# Altium footprint library QFN_Sq_50P_Side_L.PcbLib: 118 footprints (part 7 of 8)
Each footprint in its own frame and in the unit in brackets; x right, y up, seen from the top. Pads: shape width x height; smd on the part's side, far side on the other; paste and mask are expansions set on the pad; w line width, h text height; cw(c..) or ccw(c..) is an arc to the next point about the centre after c.
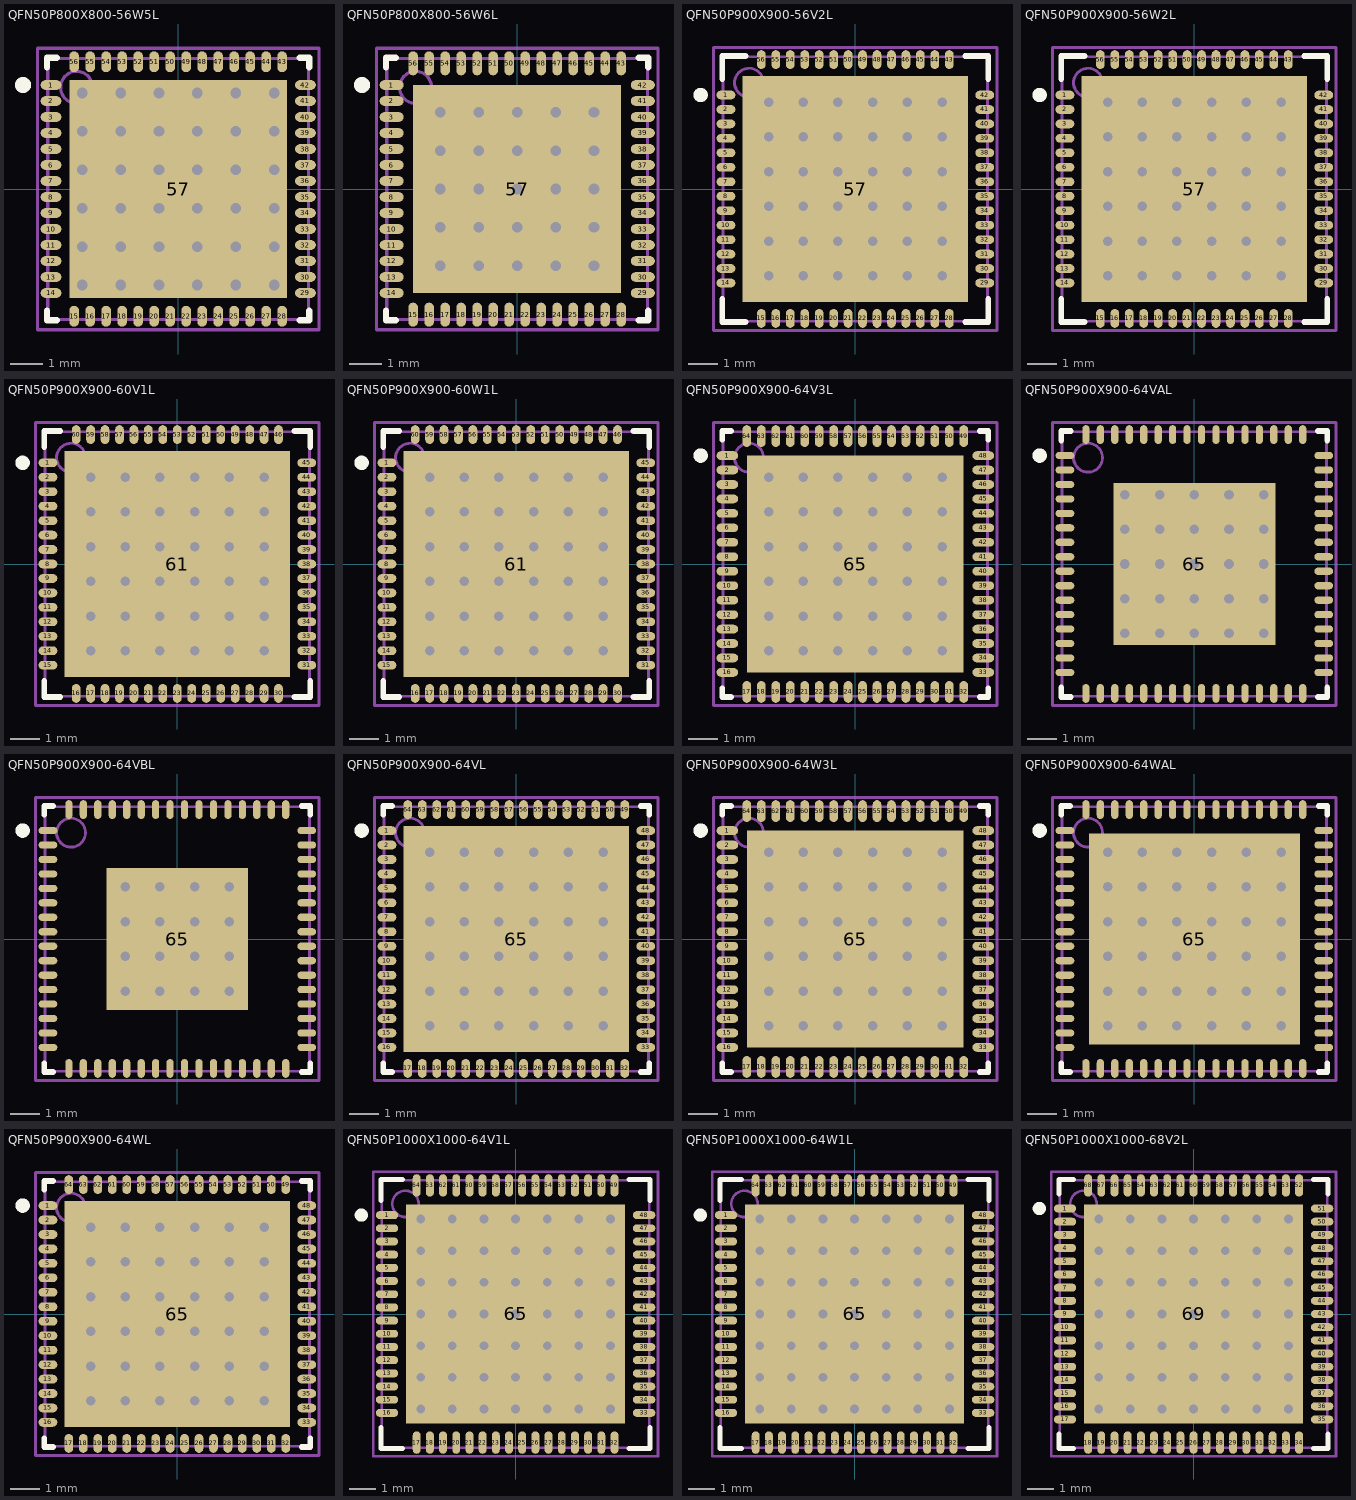
[diagram p6: the footprints below, top view; thin cyan lines are the x and y axes]

## QFN50P800X800-56W5L [mm] "QFN, 56-Leads, Body 8x8mm, Pitch 0.5mm, IPC High Density"
height 0.8
pads (57):
  oval 0.65x0.3 smd: 1(-3.975,3.25) 2(-3.975,2.75) 3(-3.975,2.25) 4(-3.975,1.75) 5(-3.975,1.25) 6(-3.975,0.75) 7(-3.975,0.25) 8(-3.975,-0.25) 9(-3.975,-0.75) 10(-3.975,-1.25) 11(-3.975,-1.75) 12(-3.975,-2.25) 13(-3.975,-2.75) 14(-3.975,-3.25) 29(3.975,-3.25) 30(3.975,-2.75) 31(3.975,-2.25) 32(3.975,-1.75) 33(3.975,-1.25) 34(3.975,-0.75) 35(3.975,-0.25) 36(3.975,0.25) 37(3.975,0.75) 38(3.975,1.25) 39(3.975,1.75) 40(3.975,2.25) 41(3.975,2.75) 42(3.975,3.25)
  oval 0.3x0.65 smd: 15(-3.25,-3.975) 16(-2.75,-3.975) 17(-2.25,-3.975) 18(-1.75,-3.975) 19(-1.25,-3.975) 20(-0.75,-3.975) 21(-0.25,-3.975) 22(0.25,-3.975) 23(0.75,-3.975) 24(1.25,-3.975) 25(1.75,-3.975) 26(2.25,-3.975) 27(2.75,-3.975) 28(3.25,-3.975) 43(3.25,3.975) 44(2.75,3.975) 45(2.25,3.975) 46(1.75,3.975) 47(1.25,3.975) 48(0.75,3.975) 49(0.25,3.975) 50(-0.25,3.975) 51(-0.75,3.975) 52(-1.25,3.975) 53(-1.75,3.975) 54(-2.25,3.975) 55(-2.75,3.975) 56(-3.25,3.975)
  rect 6.8x6.8 smd: 57(0,0)
via -3,3 diameter 0.66 hole 0.33
via -1.8,3 diameter 0.66 hole 0.33
via -0.6,3 diameter 0.66 hole 0.33
via 0.6,3 diameter 0.66 hole 0.33
via 1.8,3 diameter 0.66 hole 0.33
via 3,3 diameter 0.66 hole 0.33
via -3,1.8 diameter 0.66 hole 0.33
via -1.8,1.8 diameter 0.66 hole 0.33
via -0.6,1.8 diameter 0.66 hole 0.33
via 0.6,1.8 diameter 0.66 hole 0.33
via 1.8,1.8 diameter 0.66 hole 0.33
via 3,1.8 diameter 0.66 hole 0.33
via -3,0.6 diameter 0.66 hole 0.33
via -1.8,0.6 diameter 0.66 hole 0.33
via -0.6,0.6 diameter 0.66 hole 0.33
via 0.6,0.6 diameter 0.66 hole 0.33
via 1.8,0.6 diameter 0.66 hole 0.33
via 3,0.6 diameter 0.66 hole 0.33
via -3,-0.6 diameter 0.66 hole 0.33
via -1.8,-0.6 diameter 0.66 hole 0.33
via -0.6,-0.6 diameter 0.66 hole 0.33
via 0.6,-0.6 diameter 0.66 hole 0.33
via 1.8,-0.6 diameter 0.66 hole 0.33
via 3,-0.6 diameter 0.66 hole 0.33
via -3,-1.8 diameter 0.66 hole 0.33
via -1.8,-1.8 diameter 0.66 hole 0.33
via -0.6,-1.8 diameter 0.66 hole 0.33
via 0.6,-1.8 diameter 0.66 hole 0.33
via 1.8,-1.8 diameter 0.66 hole 0.33
via 3,-1.8 diameter 0.66 hole 0.33
via -3,-3 diameter 0.66 hole 0.33
via -1.8,-3 diameter 0.66 hole 0.33
via -0.6,-3 diameter 0.66 hole 0.33
via 0.6,-3 diameter 0.66 hole 0.33
via 1.8,-3 diameter 0.66 hole 0.33
via 3,-3 diameter 0.66 hole 0.33
Top Overlay:
  circle w0.25: c-4.85,3.25 r0.125
  lines w0.2: -4.1,-3.8 -4.1,-4.1 -3.8,-4.1 ; -4.1,3.8 -4.1,4.1 -3.8,4.1 ; 3.8,-4.1 4.1,-4.1 4.1,-3.8 ; 3.8,4.1 4.1,4.1 4.1,3.8
Mechanical 13:
  circle w0.1: c-3.175,3.175 r0.5
  lines w0.1: -4.075,-4.075 -4.075,4.075 4.075,4.075 4.075,-4.075 -4.075,-4.075
Mechanical 15:
  lines w0.1: -0.5,0 0.5,0 ; 0,-0.5 0,0.5 ; -4.4,-4.4 -4.4,4.4 4.4,4.4 4.4,-4.4 -4.4,-4.4
3D body: height 0.8, standoff 0, extent -4.075,-4.075 4.075,4.075

## QFN50P800X800-56W6L [mm] "QFN, 56-Leads, Body 8x8mm, Pitch 0.5mm, IPC High Density"
height 0.8
pads (57):
  oval 0.75x0.3 smd: 1(-3.925,3.25) 2(-3.925,2.75) 3(-3.925,2.25) 4(-3.925,1.75) 5(-3.925,1.25) 6(-3.925,0.75) 7(-3.925,0.25) 8(-3.925,-0.25) 9(-3.925,-0.75) 10(-3.925,-1.25) 11(-3.925,-1.75) 12(-3.925,-2.25) 13(-3.925,-2.75) 14(-3.925,-3.25) 29(3.925,-3.25) 30(3.925,-2.75) 31(3.925,-2.25) 32(3.925,-1.75) 33(3.925,-1.25) 34(3.925,-0.75) 35(3.925,-0.25) 36(3.925,0.25) 37(3.925,0.75) 38(3.925,1.25) 39(3.925,1.75) 40(3.925,2.25) 41(3.925,2.75) 42(3.925,3.25)
  oval 0.3x0.75 smd: 15(-3.25,-3.925) 16(-2.75,-3.925) 17(-2.25,-3.925) 18(-1.75,-3.925) 19(-1.25,-3.925) 20(-0.75,-3.925) 21(-0.25,-3.925) 22(0.25,-3.925) 23(0.75,-3.925) 24(1.25,-3.925) 25(1.75,-3.925) 26(2.25,-3.925) 27(2.75,-3.925) 28(3.25,-3.925) 43(3.25,3.925) 44(2.75,3.925) 45(2.25,3.925) 46(1.75,3.925) 47(1.25,3.925) 48(0.75,3.925) 49(0.25,3.925) 50(-0.25,3.925) 51(-0.75,3.925) 52(-1.25,3.925) 53(-1.75,3.925) 54(-2.25,3.925) 55(-2.75,3.925) 56(-3.25,3.925)
  rect 6.5x6.5 smd: 57(0,0)
via -2.4,2.4 diameter 0.66 hole 0.33
via -1.2,2.4 diameter 0.66 hole 0.33
via 0,2.4 diameter 0.66 hole 0.33
via 1.2,2.4 diameter 0.66 hole 0.33
via 2.4,2.4 diameter 0.66 hole 0.33
via -2.4,1.2 diameter 0.66 hole 0.33
via -1.2,1.2 diameter 0.66 hole 0.33
via 0,1.2 diameter 0.66 hole 0.33
via 1.2,1.2 diameter 0.66 hole 0.33
via 2.4,1.2 diameter 0.66 hole 0.33
via -2.4,0 diameter 0.66 hole 0.33
via -1.2,0 diameter 0.66 hole 0.33
via 0,0 diameter 0.66 hole 0.33
via 1.2,0 diameter 0.66 hole 0.33
via 2.4,0 diameter 0.66 hole 0.33
via -2.4,-1.2 diameter 0.66 hole 0.33
via -1.2,-1.2 diameter 0.66 hole 0.33
via 0,-1.2 diameter 0.66 hole 0.33
via 1.2,-1.2 diameter 0.66 hole 0.33
via 2.4,-1.2 diameter 0.66 hole 0.33
via -2.4,-2.4 diameter 0.66 hole 0.33
via -1.2,-2.4 diameter 0.66 hole 0.33
via 0,-2.4 diameter 0.66 hole 0.33
via 1.2,-2.4 diameter 0.66 hole 0.33
via 2.4,-2.4 diameter 0.66 hole 0.33
Top Overlay:
  circle w0.25: c-4.85,3.25 r0.125
  lines w0.2: -4.1,-3.8 -4.1,-4.1 -3.8,-4.1 ; -4.1,3.8 -4.1,4.1 -3.8,4.1 ; 3.8,-4.1 4.1,-4.1 4.1,-3.8 ; 3.8,4.1 4.1,4.1 4.1,3.8
Mechanical 13:
  circle w0.1: c-3.175,3.175 r0.5
  lines w0.1: -4.075,-4.075 -4.075,4.075 4.075,4.075 4.075,-4.075 -4.075,-4.075
Mechanical 15:
  lines w0.1: -0.5,0 0.5,0 ; 0,-0.5 0,0.5 ; -4.4,-4.4 -4.4,4.4 4.4,4.4 4.4,-4.4 -4.4,-4.4
3D body: height 0.8, standoff 0, extent -4.075,-4.075 4.075,4.075

## QFN50P900X900-56V2L [mm] "QFN, 56-Leads, Body 9x9mm, Pitch 0.5mm, IPC High Density"
height 1
pads (57):
  oval 0.65x0.3 smd: 1(-4.475,3.25) 2(-4.475,2.75) 3(-4.475,2.25) 4(-4.475,1.75) 5(-4.475,1.25) 6(-4.475,0.75) 7(-4.475,0.25) 8(-4.475,-0.25) 9(-4.475,-0.75) 10(-4.475,-1.25) 11(-4.475,-1.75) 12(-4.475,-2.25) 13(-4.475,-2.75) 14(-4.475,-3.25) 29(4.475,-3.25) 30(4.475,-2.75) 31(4.475,-2.25) 32(4.475,-1.75) 33(4.475,-1.25) 34(4.475,-0.75) 35(4.475,-0.25) 36(4.475,0.25) 37(4.475,0.75) 38(4.475,1.25) 39(4.475,1.75) 40(4.475,2.25) 41(4.475,2.75) 42(4.475,3.25)
  oval 0.3x0.65 smd: 15(-3.25,-4.475) 16(-2.75,-4.475) 17(-2.25,-4.475) 18(-1.75,-4.475) 19(-1.25,-4.475) 20(-0.75,-4.475) 21(-0.25,-4.475) 22(0.25,-4.475) 23(0.75,-4.475) 24(1.25,-4.475) 25(1.75,-4.475) 26(2.25,-4.475) 27(2.75,-4.475) 28(3.25,-4.475) 43(3.25,4.475) 44(2.75,4.475) 45(2.25,4.475) 46(1.75,4.475) 47(1.25,4.475) 48(0.75,4.475) 49(0.25,4.475) 50(-0.25,4.475) 51(-0.75,4.475) 52(-1.25,4.475) 53(-1.75,4.475) 54(-2.25,4.475) 55(-2.75,4.475) 56(-3.25,4.475)
  rect 7.8x7.8 smd: 57(0,0)
via -3,3 diameter 0.66 hole 0.33
via -1.8,3 diameter 0.66 hole 0.33
via -0.6,3 diameter 0.66 hole 0.33
via 0.6,3 diameter 0.66 hole 0.33
via 1.8,3 diameter 0.66 hole 0.33
via 3,3 diameter 0.66 hole 0.33
via -3,1.8 diameter 0.66 hole 0.33
via -1.8,1.8 diameter 0.66 hole 0.33
via -0.6,1.8 diameter 0.66 hole 0.33
via 0.6,1.8 diameter 0.66 hole 0.33
via 1.8,1.8 diameter 0.66 hole 0.33
via 3,1.8 diameter 0.66 hole 0.33
via -3,0.6 diameter 0.66 hole 0.33
via -1.8,0.6 diameter 0.66 hole 0.33
via -0.6,0.6 diameter 0.66 hole 0.33
via 0.6,0.6 diameter 0.66 hole 0.33
via 1.8,0.6 diameter 0.66 hole 0.33
via 3,0.6 diameter 0.66 hole 0.33
via -3,-0.6 diameter 0.66 hole 0.33
via -1.8,-0.6 diameter 0.66 hole 0.33
via -0.6,-0.6 diameter 0.66 hole 0.33
via 0.6,-0.6 diameter 0.66 hole 0.33
via 1.8,-0.6 diameter 0.66 hole 0.33
via 3,-0.6 diameter 0.66 hole 0.33
via -3,-1.8 diameter 0.66 hole 0.33
via -1.8,-1.8 diameter 0.66 hole 0.33
via -0.6,-1.8 diameter 0.66 hole 0.33
via 0.6,-1.8 diameter 0.66 hole 0.33
via 1.8,-1.8 diameter 0.66 hole 0.33
via 3,-1.8 diameter 0.66 hole 0.33
via -3,-3 diameter 0.66 hole 0.33
via -1.8,-3 diameter 0.66 hole 0.33
via -0.6,-3 diameter 0.66 hole 0.33
via 0.6,-3 diameter 0.66 hole 0.33
via 1.8,-3 diameter 0.66 hole 0.33
via 3,-3 diameter 0.66 hole 0.33
Top Overlay:
  circle w0.25: c-5.35,3.25 r0.125
  lines w0.2: -4.6,-3.8 -4.6,-4.6 -3.8,-4.6 ; -4.6,3.8 -4.6,4.6 -3.8,4.6 ; 3.8,-4.6 4.6,-4.6 4.6,-3.8 ; 3.8,4.6 4.6,4.6 4.6,3.8
Mechanical 13:
  circle w0.1: c-3.675,3.675 r0.5
  lines w0.1: -4.575,-4.575 -4.575,4.575 4.575,4.575 4.575,-4.575 -4.575,-4.575
Mechanical 15:
  lines w0.1: -0.5,0 0.5,0 ; 0,-0.5 0,0.5 ; -4.9,-4.9 -4.9,4.9 4.9,4.9 4.9,-4.9 -4.9,-4.9
3D body: height 1, standoff 0, extent -4.575,-4.575 4.575,4.575

## QFN50P900X900-56W2L [mm] "QFN, 56-Leads, Body 9x9mm, Pitch 0.5mm, IPC High Density"
height 0.8
pads (57):
  oval 0.65x0.3 smd: 1(-4.475,3.25) 2(-4.475,2.75) 3(-4.475,2.25) 4(-4.475,1.75) 5(-4.475,1.25) 6(-4.475,0.75) 7(-4.475,0.25) 8(-4.475,-0.25) 9(-4.475,-0.75) 10(-4.475,-1.25) 11(-4.475,-1.75) 12(-4.475,-2.25) 13(-4.475,-2.75) 14(-4.475,-3.25) 29(4.475,-3.25) 30(4.475,-2.75) 31(4.475,-2.25) 32(4.475,-1.75) 33(4.475,-1.25) 34(4.475,-0.75) 35(4.475,-0.25) 36(4.475,0.25) 37(4.475,0.75) 38(4.475,1.25) 39(4.475,1.75) 40(4.475,2.25) 41(4.475,2.75) 42(4.475,3.25)
  oval 0.3x0.65 smd: 15(-3.25,-4.475) 16(-2.75,-4.475) 17(-2.25,-4.475) 18(-1.75,-4.475) 19(-1.25,-4.475) 20(-0.75,-4.475) 21(-0.25,-4.475) 22(0.25,-4.475) 23(0.75,-4.475) 24(1.25,-4.475) 25(1.75,-4.475) 26(2.25,-4.475) 27(2.75,-4.475) 28(3.25,-4.475) 43(3.25,4.475) 44(2.75,4.475) 45(2.25,4.475) 46(1.75,4.475) 47(1.25,4.475) 48(0.75,4.475) 49(0.25,4.475) 50(-0.25,4.475) 51(-0.75,4.475) 52(-1.25,4.475) 53(-1.75,4.475) 54(-2.25,4.475) 55(-2.75,4.475) 56(-3.25,4.475)
  rect 7.8x7.8 smd: 57(0,0)
via -3,3 diameter 0.66 hole 0.33
via -1.8,3 diameter 0.66 hole 0.33
via -0.6,3 diameter 0.66 hole 0.33
via 0.6,3 diameter 0.66 hole 0.33
via 1.8,3 diameter 0.66 hole 0.33
via 3,3 diameter 0.66 hole 0.33
via -3,1.8 diameter 0.66 hole 0.33
via -1.8,1.8 diameter 0.66 hole 0.33
via -0.6,1.8 diameter 0.66 hole 0.33
via 0.6,1.8 diameter 0.66 hole 0.33
via 1.8,1.8 diameter 0.66 hole 0.33
via 3,1.8 diameter 0.66 hole 0.33
via -3,0.6 diameter 0.66 hole 0.33
via -1.8,0.6 diameter 0.66 hole 0.33
via -0.6,0.6 diameter 0.66 hole 0.33
via 0.6,0.6 diameter 0.66 hole 0.33
via 1.8,0.6 diameter 0.66 hole 0.33
via 3,0.6 diameter 0.66 hole 0.33
via -3,-0.6 diameter 0.66 hole 0.33
via -1.8,-0.6 diameter 0.66 hole 0.33
via -0.6,-0.6 diameter 0.66 hole 0.33
via 0.6,-0.6 diameter 0.66 hole 0.33
via 1.8,-0.6 diameter 0.66 hole 0.33
via 3,-0.6 diameter 0.66 hole 0.33
via -3,-1.8 diameter 0.66 hole 0.33
via -1.8,-1.8 diameter 0.66 hole 0.33
via -0.6,-1.8 diameter 0.66 hole 0.33
via 0.6,-1.8 diameter 0.66 hole 0.33
via 1.8,-1.8 diameter 0.66 hole 0.33
via 3,-1.8 diameter 0.66 hole 0.33
via -3,-3 diameter 0.66 hole 0.33
via -1.8,-3 diameter 0.66 hole 0.33
via -0.6,-3 diameter 0.66 hole 0.33
via 0.6,-3 diameter 0.66 hole 0.33
via 1.8,-3 diameter 0.66 hole 0.33
via 3,-3 diameter 0.66 hole 0.33
Top Overlay:
  circle w0.25: c-5.35,3.25 r0.125
  lines w0.2: -4.6,-3.8 -4.6,-4.6 -3.8,-4.6 ; -4.6,3.8 -4.6,4.6 -3.8,4.6 ; 3.8,-4.6 4.6,-4.6 4.6,-3.8 ; 3.8,4.6 4.6,4.6 4.6,3.8
Mechanical 13:
  circle w0.1: c-3.675,3.675 r0.5
  lines w0.1: -4.575,-4.575 -4.575,4.575 4.575,4.575 4.575,-4.575 -4.575,-4.575
Mechanical 15:
  lines w0.1: -0.5,0 0.5,0 ; 0,-0.5 0,0.5 ; -4.9,-4.9 -4.9,4.9 4.9,4.9 4.9,-4.9 -4.9,-4.9
3D body: height 0.8, standoff 0, extent -4.575,-4.575 4.575,4.575

## QFN50P900X900-60V1L [mm] "QFN, 60-Leads, Body 9x9mm, Pitch 0.5mm, IPC High Density"
height 1
pads (61):
  oval 0.65x0.3 smd: 1(-4.475,3.5) 2(-4.475,3) 3(-4.475,2.5) 4(-4.475,2) 5(-4.475,1.5) 6(-4.475,1) 7(-4.475,0.5) 8(-4.475,0) 9(-4.475,-0.5) 10(-4.475,-1) 11(-4.475,-1.5) 12(-4.475,-2) 13(-4.475,-2.5) 14(-4.475,-3) 15(-4.475,-3.5) 31(4.475,-3.5) 32(4.475,-3) 33(4.475,-2.5) 34(4.475,-2) 35(4.475,-1.5) 36(4.475,-1) 37(4.475,-0.5) 38(4.475,0) 39(4.475,0.5) 40(4.475,1) 41(4.475,1.5) 42(4.475,2) 43(4.475,2.5) 44(4.475,3) 45(4.475,3.5)
  oval 0.3x0.65 smd: 16(-3.5,-4.475) 17(-3,-4.475) 18(-2.5,-4.475) 19(-2,-4.475) 20(-1.5,-4.475) 21(-1,-4.475) 22(-0.5,-4.475) 23(0,-4.475) 24(0.5,-4.475) 25(1,-4.475) 26(1.5,-4.475) 27(2,-4.475) 28(2.5,-4.475) 29(3,-4.475) 30(3.5,-4.475) 46(3.5,4.475) 47(3,4.475) 48(2.5,4.475) 49(2,4.475) 50(1.5,4.475) 51(1,4.475) 52(0.5,4.475) 53(0,4.475) 54(-0.5,4.475) 55(-1,4.475) 56(-1.5,4.475) 57(-2,4.475) 58(-2.5,4.475) 59(-3,4.475) 60(-3.5,4.475)
  rect 7.8x7.8 smd: 61(0,0)
via -3,3 diameter 0.66 hole 0.33
via -1.8,3 diameter 0.66 hole 0.33
via -0.6,3 diameter 0.66 hole 0.33
via 0.6,3 diameter 0.66 hole 0.33
via 1.8,3 diameter 0.66 hole 0.33
via 3,3 diameter 0.66 hole 0.33
via -3,1.8 diameter 0.66 hole 0.33
via -1.8,1.8 diameter 0.66 hole 0.33
via -0.6,1.8 diameter 0.66 hole 0.33
via 0.6,1.8 diameter 0.66 hole 0.33
via 1.8,1.8 diameter 0.66 hole 0.33
via 3,1.8 diameter 0.66 hole 0.33
via -3,0.6 diameter 0.66 hole 0.33
via -1.8,0.6 diameter 0.66 hole 0.33
via -0.6,0.6 diameter 0.66 hole 0.33
via 0.6,0.6 diameter 0.66 hole 0.33
via 1.8,0.6 diameter 0.66 hole 0.33
via 3,0.6 diameter 0.66 hole 0.33
via -3,-0.6 diameter 0.66 hole 0.33
via -1.8,-0.6 diameter 0.66 hole 0.33
via -0.6,-0.6 diameter 0.66 hole 0.33
via 0.6,-0.6 diameter 0.66 hole 0.33
via 1.8,-0.6 diameter 0.66 hole 0.33
via 3,-0.6 diameter 0.66 hole 0.33
via -3,-1.8 diameter 0.66 hole 0.33
via -1.8,-1.8 diameter 0.66 hole 0.33
via -0.6,-1.8 diameter 0.66 hole 0.33
via 0.6,-1.8 diameter 0.66 hole 0.33
via 1.8,-1.8 diameter 0.66 hole 0.33
via 3,-1.8 diameter 0.66 hole 0.33
via -3,-3 diameter 0.66 hole 0.33
via -1.8,-3 diameter 0.66 hole 0.33
via -0.6,-3 diameter 0.66 hole 0.33
via 0.6,-3 diameter 0.66 hole 0.33
via 1.8,-3 diameter 0.66 hole 0.33
via 3,-3 diameter 0.66 hole 0.33
Top Overlay:
  circle w0.25: c-5.35,3.5 r0.125
  lines w0.2: -4.6,-4.05 -4.6,-4.6 -4.05,-4.6 ; -4.6,4.05 -4.6,4.6 -4.05,4.6 ; 4.05,-4.6 4.6,-4.6 4.6,-4.05 ; 4.05,4.6 4.6,4.6 4.6,4.05
Mechanical 13:
  circle w0.1: c-3.675,3.675 r0.5
  lines w0.1: -4.575,-4.575 -4.575,4.575 4.575,4.575 4.575,-4.575 -4.575,-4.575
Mechanical 15:
  lines w0.1: -0.5,0 0.5,0 ; 0,-0.5 0,0.5 ; -4.9,-4.9 -4.9,4.9 4.9,4.9 4.9,-4.9 -4.9,-4.9
3D body: height 1, standoff 0, extent -4.575,-4.575 4.575,4.575

## QFN50P900X900-60W1L [mm] "QFN, 60-Leads, Body 9x9mm, Pitch 0.5mm, IPC High Density"
height 0.8
pads (61):
  oval 0.65x0.3 smd: 1(-4.475,3.5) 2(-4.475,3) 3(-4.475,2.5) 4(-4.475,2) 5(-4.475,1.5) 6(-4.475,1) 7(-4.475,0.5) 8(-4.475,0) 9(-4.475,-0.5) 10(-4.475,-1) 11(-4.475,-1.5) 12(-4.475,-2) 13(-4.475,-2.5) 14(-4.475,-3) 15(-4.475,-3.5) 31(4.475,-3.5) 32(4.475,-3) 33(4.475,-2.5) 34(4.475,-2) 35(4.475,-1.5) 36(4.475,-1) 37(4.475,-0.5) 38(4.475,0) 39(4.475,0.5) 40(4.475,1) 41(4.475,1.5) 42(4.475,2) 43(4.475,2.5) 44(4.475,3) 45(4.475,3.5)
  oval 0.3x0.65 smd: 16(-3.5,-4.475) 17(-3,-4.475) 18(-2.5,-4.475) 19(-2,-4.475) 20(-1.5,-4.475) 21(-1,-4.475) 22(-0.5,-4.475) 23(0,-4.475) 24(0.5,-4.475) 25(1,-4.475) 26(1.5,-4.475) 27(2,-4.475) 28(2.5,-4.475) 29(3,-4.475) 30(3.5,-4.475) 46(3.5,4.475) 47(3,4.475) 48(2.5,4.475) 49(2,4.475) 50(1.5,4.475) 51(1,4.475) 52(0.5,4.475) 53(0,4.475) 54(-0.5,4.475) 55(-1,4.475) 56(-1.5,4.475) 57(-2,4.475) 58(-2.5,4.475) 59(-3,4.475) 60(-3.5,4.475)
  rect 7.8x7.8 smd: 61(0,0)
via -3,3 diameter 0.66 hole 0.33
via -1.8,3 diameter 0.66 hole 0.33
via -0.6,3 diameter 0.66 hole 0.33
via 0.6,3 diameter 0.66 hole 0.33
via 1.8,3 diameter 0.66 hole 0.33
via 3,3 diameter 0.66 hole 0.33
via -3,1.8 diameter 0.66 hole 0.33
via -1.8,1.8 diameter 0.66 hole 0.33
via -0.6,1.8 diameter 0.66 hole 0.33
via 0.6,1.8 diameter 0.66 hole 0.33
via 1.8,1.8 diameter 0.66 hole 0.33
via 3,1.8 diameter 0.66 hole 0.33
via -3,0.6 diameter 0.66 hole 0.33
via -1.8,0.6 diameter 0.66 hole 0.33
via -0.6,0.6 diameter 0.66 hole 0.33
via 0.6,0.6 diameter 0.66 hole 0.33
via 1.8,0.6 diameter 0.66 hole 0.33
via 3,0.6 diameter 0.66 hole 0.33
via -3,-0.6 diameter 0.66 hole 0.33
via -1.8,-0.6 diameter 0.66 hole 0.33
via -0.6,-0.6 diameter 0.66 hole 0.33
via 0.6,-0.6 diameter 0.66 hole 0.33
via 1.8,-0.6 diameter 0.66 hole 0.33
via 3,-0.6 diameter 0.66 hole 0.33
via -3,-1.8 diameter 0.66 hole 0.33
via -1.8,-1.8 diameter 0.66 hole 0.33
via -0.6,-1.8 diameter 0.66 hole 0.33
via 0.6,-1.8 diameter 0.66 hole 0.33
via 1.8,-1.8 diameter 0.66 hole 0.33
via 3,-1.8 diameter 0.66 hole 0.33
via -3,-3 diameter 0.66 hole 0.33
via -1.8,-3 diameter 0.66 hole 0.33
via -0.6,-3 diameter 0.66 hole 0.33
via 0.6,-3 diameter 0.66 hole 0.33
via 1.8,-3 diameter 0.66 hole 0.33
via 3,-3 diameter 0.66 hole 0.33
Top Overlay:
  circle w0.25: c-5.35,3.5 r0.125
  lines w0.2: -4.6,-4.05 -4.6,-4.6 -4.05,-4.6 ; -4.6,4.05 -4.6,4.6 -4.05,4.6 ; 4.05,-4.6 4.6,-4.6 4.6,-4.05 ; 4.05,4.6 4.6,4.6 4.6,4.05
Mechanical 13:
  circle w0.1: c-3.675,3.675 r0.5
  lines w0.1: -4.575,-4.575 -4.575,4.575 4.575,4.575 4.575,-4.575 -4.575,-4.575
Mechanical 15:
  lines w0.1: -0.5,0 0.5,0 ; 0,-0.5 0,0.5 ; -4.9,-4.9 -4.9,4.9 4.9,4.9 4.9,-4.9 -4.9,-4.9
3D body: height 0.8, standoff 0, extent -4.575,-4.575 4.575,4.575

## QFN50P900X900-64V3L [mm] "QFN, 64-Leads, Body 9x9mm, Pitch 0.5mm, IPC High Density"
height 1
pads (65):
  oval 0.75x0.3 smd: 1(-4.425,3.75) 2(-4.425,3.25) 3(-4.425,2.75) 4(-4.425,2.25) 5(-4.425,1.75) 6(-4.425,1.25) 7(-4.425,0.75) 8(-4.425,0.25) 9(-4.425,-0.25) 10(-4.425,-0.75) 11(-4.425,-1.25) 12(-4.425,-1.75) 13(-4.425,-2.25) 14(-4.425,-2.75) 15(-4.425,-3.25) 16(-4.425,-3.75) 33(4.425,-3.75) 34(4.425,-3.25) 35(4.425,-2.75) 36(4.425,-2.25) 37(4.425,-1.75) 38(4.425,-1.25) 39(4.425,-0.75) 40(4.425,-0.25) 41(4.425,0.25) 42(4.425,0.75) 43(4.425,1.25) 44(4.425,1.75) 45(4.425,2.25) 46(4.425,2.75) 47(4.425,3.25) 48(4.425,3.75)
  oval 0.3x0.75 smd: 17(-3.75,-4.425) 18(-3.25,-4.425) 19(-2.75,-4.425) 20(-2.25,-4.425) 21(-1.75,-4.425) 22(-1.25,-4.425) 23(-0.75,-4.425) 24(-0.25,-4.425) 25(0.25,-4.425) 26(0.75,-4.425) 27(1.25,-4.425) 28(1.75,-4.425) 29(2.25,-4.425) 30(2.75,-4.425) 31(3.25,-4.425) 32(3.75,-4.425) 49(3.75,4.425) 50(3.25,4.425) 51(2.75,4.425) 52(2.25,4.425) 53(1.75,4.425) 54(1.25,4.425) 55(0.75,4.425) 56(0.25,4.425) 57(-0.25,4.425) 58(-0.75,4.425) 59(-1.25,4.425) 60(-1.75,4.425) 61(-2.25,4.425) 62(-2.75,4.425) 63(-3.25,4.425) 64(-3.75,4.425)
  rect 7.5x7.5 smd: 65(0,0)
via -3,3 diameter 0.66 hole 0.33
via -1.8,3 diameter 0.66 hole 0.33
via -0.6,3 diameter 0.66 hole 0.33
via 0.6,3 diameter 0.66 hole 0.33
via 1.8,3 diameter 0.66 hole 0.33
via 3,3 diameter 0.66 hole 0.33
via -3,1.8 diameter 0.66 hole 0.33
via -1.8,1.8 diameter 0.66 hole 0.33
via -0.6,1.8 diameter 0.66 hole 0.33
via 0.6,1.8 diameter 0.66 hole 0.33
via 1.8,1.8 diameter 0.66 hole 0.33
via 3,1.8 diameter 0.66 hole 0.33
via -3,0.6 diameter 0.66 hole 0.33
via -1.8,0.6 diameter 0.66 hole 0.33
via -0.6,0.6 diameter 0.66 hole 0.33
via 0.6,0.6 diameter 0.66 hole 0.33
via 1.8,0.6 diameter 0.66 hole 0.33
via 3,0.6 diameter 0.66 hole 0.33
via -3,-0.6 diameter 0.66 hole 0.33
via -1.8,-0.6 diameter 0.66 hole 0.33
via -0.6,-0.6 diameter 0.66 hole 0.33
via 0.6,-0.6 diameter 0.66 hole 0.33
via 1.8,-0.6 diameter 0.66 hole 0.33
via 3,-0.6 diameter 0.66 hole 0.33
via -3,-1.8 diameter 0.66 hole 0.33
via -1.8,-1.8 diameter 0.66 hole 0.33
via -0.6,-1.8 diameter 0.66 hole 0.33
via 0.6,-1.8 diameter 0.66 hole 0.33
via 1.8,-1.8 diameter 0.66 hole 0.33
via 3,-1.8 diameter 0.66 hole 0.33
via -3,-3 diameter 0.66 hole 0.33
via -1.8,-3 diameter 0.66 hole 0.33
via -0.6,-3 diameter 0.66 hole 0.33
via 0.6,-3 diameter 0.66 hole 0.33
via 1.8,-3 diameter 0.66 hole 0.33
via 3,-3 diameter 0.66 hole 0.33
Top Overlay:
  circle w0.25: c-5.35,3.75 r0.125
  lines w0.2: -4.6,-4.3 -4.6,-4.6 -4.3,-4.6 ; -4.6,4.3 -4.6,4.6 -4.3,4.6 ; 4.3,-4.6 4.6,-4.6 4.6,-4.3 ; 4.3,4.6 4.6,4.6 4.6,4.3
Mechanical 13:
  circle w0.1: c-3.675,3.675 r0.5
  lines w0.1: -4.575,-4.575 -4.575,4.575 4.575,4.575 4.575,-4.575 -4.575,-4.575
Mechanical 15:
  lines w0.1: -0.5,0 0.5,0 ; 0,-0.5 0,0.5 ; -4.9,-4.9 -4.9,4.9 4.9,4.9 4.9,-4.9 -4.9,-4.9
3D body: height 1, standoff 0, extent -4.575,-4.575 4.575,4.575

## QFN50P900X900-64VAL [mm] "QFN, 64-Leads, Body 9x9mm, Pitch 0.5mm, IPC High Density"
height 1
pads (65):
  oval 0.65x0.25 smd: 1(-4.475,3.75) 2(-4.475,3.25) 3(-4.475,2.75) 4(-4.475,2.25) 5(-4.475,1.75) 6(-4.475,1.25) 7(-4.475,0.75) 8(-4.475,0.25) 9(-4.475,-0.25) 10(-4.475,-0.75) 11(-4.475,-1.25) 12(-4.475,-1.75) 13(-4.475,-2.25) 14(-4.475,-2.75) 15(-4.475,-3.25) 16(-4.475,-3.75) 33(4.475,-3.75) 34(4.475,-3.25) 35(4.475,-2.75) 36(4.475,-2.25) 37(4.475,-1.75) 38(4.475,-1.25) 39(4.475,-0.75) 40(4.475,-0.25) 41(4.475,0.25) 42(4.475,0.75) 43(4.475,1.25) 44(4.475,1.75) 45(4.475,2.25) 46(4.475,2.75) 47(4.475,3.25) 48(4.475,3.75)
  oval 0.25x0.65 smd: 17(-3.75,-4.475) 18(-3.25,-4.475) 19(-2.75,-4.475) 20(-2.25,-4.475) 21(-1.75,-4.475) 22(-1.25,-4.475) 23(-0.75,-4.475) 24(-0.25,-4.475) 25(0.25,-4.475) 26(0.75,-4.475) 27(1.25,-4.475) 28(1.75,-4.475) 29(2.25,-4.475) 30(2.75,-4.475) 31(3.25,-4.475) 32(3.75,-4.475) 49(3.75,4.475) 50(3.25,4.475) 51(2.75,4.475) 52(2.25,4.475) 53(1.75,4.475) 54(1.25,4.475) 55(0.75,4.475) 56(0.25,4.475) 57(-0.25,4.475) 58(-0.75,4.475) 59(-1.25,4.475) 60(-1.75,4.475) 61(-2.25,4.475) 62(-2.75,4.475) 63(-3.25,4.475) 64(-3.75,4.475)
  rect 5.6x5.6 smd: 65(0,0)
via -2.4,2.4 diameter 0.66 hole 0.33
via -1.2,2.4 diameter 0.66 hole 0.33
via 0,2.4 diameter 0.66 hole 0.33
via 1.2,2.4 diameter 0.66 hole 0.33
via 2.4,2.4 diameter 0.66 hole 0.33
via -2.4,1.2 diameter 0.66 hole 0.33
via -1.2,1.2 diameter 0.66 hole 0.33
via 0,1.2 diameter 0.66 hole 0.33
via 1.2,1.2 diameter 0.66 hole 0.33
via 2.4,1.2 diameter 0.66 hole 0.33
via -2.4,0 diameter 0.66 hole 0.33
via -1.2,0 diameter 0.66 hole 0.33
via 0,0 diameter 0.66 hole 0.33
via 1.2,0 diameter 0.66 hole 0.33
via 2.4,0 diameter 0.66 hole 0.33
via -2.4,-1.2 diameter 0.66 hole 0.33
via -1.2,-1.2 diameter 0.66 hole 0.33
via 0,-1.2 diameter 0.66 hole 0.33
via 1.2,-1.2 diameter 0.66 hole 0.33
via 2.4,-1.2 diameter 0.66 hole 0.33
via -2.4,-2.4 diameter 0.66 hole 0.33
via -1.2,-2.4 diameter 0.66 hole 0.33
via 0,-2.4 diameter 0.66 hole 0.33
via 1.2,-2.4 diameter 0.66 hole 0.33
via 2.4,-2.4 diameter 0.66 hole 0.33
Top Overlay:
  circle w0.25: c-5.35,3.75 r0.125
  lines w0.2: -4.6,-4.275 -4.6,-4.6 -4.275,-4.6 ; -4.6,4.275 -4.6,4.6 -4.275,4.6 ; 4.275,-4.6 4.6,-4.6 4.6,-4.275 ; 4.275,4.6 4.6,4.6 4.6,4.275
Mechanical 13:
  circle w0.1: c-3.675,3.675 r0.5
  lines w0.1: -4.575,-4.575 -4.575,4.575 4.575,4.575 4.575,-4.575 -4.575,-4.575
Mechanical 15:
  lines w0.1: -0.5,0 0.5,0 ; 0,-0.5 0,0.5 ; -4.9,-4.9 -4.9,4.9 4.9,4.9 4.9,-4.9 -4.9,-4.9
3D body: height 1, standoff 0, extent -4.575,-4.575 4.575,4.575

## QFN50P900X900-64VBL [mm] "QFN, 64-Leads, Body 9x9mm, Pitch 0.5mm, IPC High Density"
height 1
pads (65):
  oval 0.65x0.25 smd: 1(-4.475,3.75) 2(-4.475,3.25) 3(-4.475,2.75) 4(-4.475,2.25) 5(-4.475,1.75) 6(-4.475,1.25) 7(-4.475,0.75) 8(-4.475,0.25) 9(-4.475,-0.25) 10(-4.475,-0.75) 11(-4.475,-1.25) 12(-4.475,-1.75) 13(-4.475,-2.25) 14(-4.475,-2.75) 15(-4.475,-3.25) 16(-4.475,-3.75) 33(4.475,-3.75) 34(4.475,-3.25) 35(4.475,-2.75) 36(4.475,-2.25) 37(4.475,-1.75) 38(4.475,-1.25) 39(4.475,-0.75) 40(4.475,-0.25) 41(4.475,0.25) 42(4.475,0.75) 43(4.475,1.25) 44(4.475,1.75) 45(4.475,2.25) 46(4.475,2.75) 47(4.475,3.25) 48(4.475,3.75)
  oval 0.25x0.65 smd: 17(-3.75,-4.475) 18(-3.25,-4.475) 19(-2.75,-4.475) 20(-2.25,-4.475) 21(-1.75,-4.475) 22(-1.25,-4.475) 23(-0.75,-4.475) 24(-0.25,-4.475) 25(0.25,-4.475) 26(0.75,-4.475) 27(1.25,-4.475) 28(1.75,-4.475) 29(2.25,-4.475) 30(2.75,-4.475) 31(3.25,-4.475) 32(3.75,-4.475) 49(3.75,4.475) 50(3.25,4.475) 51(2.75,4.475) 52(2.25,4.475) 53(1.75,4.475) 54(1.25,4.475) 55(0.75,4.475) 56(0.25,4.475) 57(-0.25,4.475) 58(-0.75,4.475) 59(-1.25,4.475) 60(-1.75,4.475) 61(-2.25,4.475) 62(-2.75,4.475) 63(-3.25,4.475) 64(-3.75,4.475)
  rect 4.9x4.9 smd: 65(0,0)
via -1.8,1.8 diameter 0.66 hole 0.33
via -0.6,1.8 diameter 0.66 hole 0.33
via 0.6,1.8 diameter 0.66 hole 0.33
via 1.8,1.8 diameter 0.66 hole 0.33
via -1.8,0.6 diameter 0.66 hole 0.33
via -0.6,0.6 diameter 0.66 hole 0.33
via 0.6,0.6 diameter 0.66 hole 0.33
via 1.8,0.6 diameter 0.66 hole 0.33
via -1.8,-0.6 diameter 0.66 hole 0.33
via -0.6,-0.6 diameter 0.66 hole 0.33
via 0.6,-0.6 diameter 0.66 hole 0.33
via 1.8,-0.6 diameter 0.66 hole 0.33
via -1.8,-1.8 diameter 0.66 hole 0.33
via -0.6,-1.8 diameter 0.66 hole 0.33
via 0.6,-1.8 diameter 0.66 hole 0.33
via 1.8,-1.8 diameter 0.66 hole 0.33
Top Overlay:
  circle w0.25: c-5.35,3.75 r0.125
  lines w0.2: -4.6,-4.3 -4.6,-4.6 -4.3,-4.6 ; -4.6,4.3 -4.6,4.6 -4.3,4.6 ; 4.3,-4.6 4.6,-4.6 4.6,-4.3 ; 4.3,4.6 4.6,4.6 4.6,4.3
Mechanical 13:
  circle w0.1: c-3.675,3.675 r0.5
  lines w0.1: -4.575,-4.575 -4.575,4.575 4.575,4.575 4.575,-4.575 -4.575,-4.575
Mechanical 15:
  lines w0.1: -0.5,0 0.5,0 ; 0,-0.5 0,0.5 ; -4.9,-4.9 -4.9,4.9 4.9,4.9 4.9,-4.9 -4.9,-4.9
3D body: height 0.8, standoff 0, extent -4.575,-4.575 4.575,4.575

## QFN50P900X900-64VL [mm] "QFN, 64-Leads, Body 9x9mm, Pitch 0.5mm, IPC High Density"
height 1
pads (65):
  oval 0.65x0.3 smd: 1(-4.475,3.75) 2(-4.475,3.25) 3(-4.475,2.75) 4(-4.475,2.25) 5(-4.475,1.75) 6(-4.475,1.25) 7(-4.475,0.75) 8(-4.475,0.25) 9(-4.475,-0.25) 10(-4.475,-0.75) 11(-4.475,-1.25) 12(-4.475,-1.75) 13(-4.475,-2.25) 14(-4.475,-2.75) 15(-4.475,-3.25) 16(-4.475,-3.75) 33(4.475,-3.75) 34(4.475,-3.25) 35(4.475,-2.75) 36(4.475,-2.25) 37(4.475,-1.75) 38(4.475,-1.25) 39(4.475,-0.75) 40(4.475,-0.25) 41(4.475,0.25) 42(4.475,0.75) 43(4.475,1.25) 44(4.475,1.75) 45(4.475,2.25) 46(4.475,2.75) 47(4.475,3.25) 48(4.475,3.75)
  oval 0.3x0.65 smd: 17(-3.75,-4.475) 18(-3.25,-4.475) 19(-2.75,-4.475) 20(-2.25,-4.475) 21(-1.75,-4.475) 22(-1.25,-4.475) 23(-0.75,-4.475) 24(-0.25,-4.475) 25(0.25,-4.475) 26(0.75,-4.475) 27(1.25,-4.475) 28(1.75,-4.475) 29(2.25,-4.475) 30(2.75,-4.475) 31(3.25,-4.475) 32(3.75,-4.475) 49(3.75,4.475) 50(3.25,4.475) 51(2.75,4.475) 52(2.25,4.475) 53(1.75,4.475) 54(1.25,4.475) 55(0.75,4.475) 56(0.25,4.475) 57(-0.25,4.475) 58(-0.75,4.475) 59(-1.25,4.475) 60(-1.75,4.475) 61(-2.25,4.475) 62(-2.75,4.475) 63(-3.25,4.475) 64(-3.75,4.475)
  rect 7.8x7.8 smd: 65(0,0)
via -3,3 diameter 0.66 hole 0.33
via -1.8,3 diameter 0.66 hole 0.33
via -0.6,3 diameter 0.66 hole 0.33
via 0.6,3 diameter 0.66 hole 0.33
via 1.8,3 diameter 0.66 hole 0.33
via 3,3 diameter 0.66 hole 0.33
via -3,1.8 diameter 0.66 hole 0.33
via -1.8,1.8 diameter 0.66 hole 0.33
via -0.6,1.8 diameter 0.66 hole 0.33
via 0.6,1.8 diameter 0.66 hole 0.33
via 1.8,1.8 diameter 0.66 hole 0.33
via 3,1.8 diameter 0.66 hole 0.33
via -3,0.6 diameter 0.66 hole 0.33
via -1.8,0.6 diameter 0.66 hole 0.33
via -0.6,0.6 diameter 0.66 hole 0.33
via 0.6,0.6 diameter 0.66 hole 0.33
via 1.8,0.6 diameter 0.66 hole 0.33
via 3,0.6 diameter 0.66 hole 0.33
via -3,-0.6 diameter 0.66 hole 0.33
via -1.8,-0.6 diameter 0.66 hole 0.33
via -0.6,-0.6 diameter 0.66 hole 0.33
via 0.6,-0.6 diameter 0.66 hole 0.33
via 1.8,-0.6 diameter 0.66 hole 0.33
via 3,-0.6 diameter 0.66 hole 0.33
via -3,-1.8 diameter 0.66 hole 0.33
via -1.8,-1.8 diameter 0.66 hole 0.33
via -0.6,-1.8 diameter 0.66 hole 0.33
via 0.6,-1.8 diameter 0.66 hole 0.33
via 1.8,-1.8 diameter 0.66 hole 0.33
via 3,-1.8 diameter 0.66 hole 0.33
via -3,-3 diameter 0.66 hole 0.33
via -1.8,-3 diameter 0.66 hole 0.33
via -0.6,-3 diameter 0.66 hole 0.33
via 0.6,-3 diameter 0.66 hole 0.33
via 1.8,-3 diameter 0.66 hole 0.33
via 3,-3 diameter 0.66 hole 0.33
Top Overlay:
  circle w0.25: c-5.35,3.75 r0.125
  lines w0.2: -4.6,-4.3 -4.6,-4.6 -4.3,-4.6 ; -4.6,4.3 -4.6,4.6 -4.3,4.6 ; 4.3,-4.6 4.6,-4.6 4.6,-4.3 ; 4.3,4.6 4.6,4.6 4.6,4.3
Mechanical 13:
  circle w0.1: c-3.675,3.675 r0.5
  lines w0.1: -4.575,-4.575 -4.575,4.575 4.575,4.575 4.575,-4.575 -4.575,-4.575
Mechanical 15:
  lines w0.1: -0.5,0 0.5,0 ; 0,-0.5 0,0.5 ; -4.9,-4.9 -4.9,4.9 4.9,4.9 4.9,-4.9 -4.9,-4.9
3D body: height 1, standoff 0, extent -4.575,-4.575 4.575,4.575

## QFN50P900X900-64W3L [mm] "QFN, 64-Leads, Body 9x9mm, Pitch 0.5mm, IPC High Density"
height 0.8
pads (65):
  oval 0.75x0.3 smd: 1(-4.425,3.75) 2(-4.425,3.25) 3(-4.425,2.75) 4(-4.425,2.25) 5(-4.425,1.75) 6(-4.425,1.25) 7(-4.425,0.75) 8(-4.425,0.25) 9(-4.425,-0.25) 10(-4.425,-0.75) 11(-4.425,-1.25) 12(-4.425,-1.75) 13(-4.425,-2.25) 14(-4.425,-2.75) 15(-4.425,-3.25) 16(-4.425,-3.75) 33(4.425,-3.75) 34(4.425,-3.25) 35(4.425,-2.75) 36(4.425,-2.25) 37(4.425,-1.75) 38(4.425,-1.25) 39(4.425,-0.75) 40(4.425,-0.25) 41(4.425,0.25) 42(4.425,0.75) 43(4.425,1.25) 44(4.425,1.75) 45(4.425,2.25) 46(4.425,2.75) 47(4.425,3.25) 48(4.425,3.75)
  oval 0.3x0.75 smd: 17(-3.75,-4.425) 18(-3.25,-4.425) 19(-2.75,-4.425) 20(-2.25,-4.425) 21(-1.75,-4.425) 22(-1.25,-4.425) 23(-0.75,-4.425) 24(-0.25,-4.425) 25(0.25,-4.425) 26(0.75,-4.425) 27(1.25,-4.425) 28(1.75,-4.425) 29(2.25,-4.425) 30(2.75,-4.425) 31(3.25,-4.425) 32(3.75,-4.425) 49(3.75,4.425) 50(3.25,4.425) 51(2.75,4.425) 52(2.25,4.425) 53(1.75,4.425) 54(1.25,4.425) 55(0.75,4.425) 56(0.25,4.425) 57(-0.25,4.425) 58(-0.75,4.425) 59(-1.25,4.425) 60(-1.75,4.425) 61(-2.25,4.425) 62(-2.75,4.425) 63(-3.25,4.425) 64(-3.75,4.425)
  rect 7.5x7.5 smd: 65(0,0)
via -3,3 diameter 0.66 hole 0.33
via -1.8,3 diameter 0.66 hole 0.33
via -0.6,3 diameter 0.66 hole 0.33
via 0.6,3 diameter 0.66 hole 0.33
via 1.8,3 diameter 0.66 hole 0.33
via 3,3 diameter 0.66 hole 0.33
via -3,1.8 diameter 0.66 hole 0.33
via -1.8,1.8 diameter 0.66 hole 0.33
via -0.6,1.8 diameter 0.66 hole 0.33
via 0.6,1.8 diameter 0.66 hole 0.33
via 1.8,1.8 diameter 0.66 hole 0.33
via 3,1.8 diameter 0.66 hole 0.33
via -3,0.6 diameter 0.66 hole 0.33
via -1.8,0.6 diameter 0.66 hole 0.33
via -0.6,0.6 diameter 0.66 hole 0.33
via 0.6,0.6 diameter 0.66 hole 0.33
via 1.8,0.6 diameter 0.66 hole 0.33
via 3,0.6 diameter 0.66 hole 0.33
via -3,-0.6 diameter 0.66 hole 0.33
via -1.8,-0.6 diameter 0.66 hole 0.33
via -0.6,-0.6 diameter 0.66 hole 0.33
via 0.6,-0.6 diameter 0.66 hole 0.33
via 1.8,-0.6 diameter 0.66 hole 0.33
via 3,-0.6 diameter 0.66 hole 0.33
via -3,-1.8 diameter 0.66 hole 0.33
via -1.8,-1.8 diameter 0.66 hole 0.33
via -0.6,-1.8 diameter 0.66 hole 0.33
via 0.6,-1.8 diameter 0.66 hole 0.33
via 1.8,-1.8 diameter 0.66 hole 0.33
via 3,-1.8 diameter 0.66 hole 0.33
via -3,-3 diameter 0.66 hole 0.33
via -1.8,-3 diameter 0.66 hole 0.33
via -0.6,-3 diameter 0.66 hole 0.33
via 0.6,-3 diameter 0.66 hole 0.33
via 1.8,-3 diameter 0.66 hole 0.33
via 3,-3 diameter 0.66 hole 0.33
Top Overlay:
  circle w0.25: c-5.35,3.75 r0.125
  lines w0.2: -4.6,-4.3 -4.6,-4.6 -4.3,-4.6 ; -4.6,4.3 -4.6,4.6 -4.3,4.6 ; 4.3,-4.6 4.6,-4.6 4.6,-4.3 ; 4.3,4.6 4.6,4.6 4.6,4.3
Mechanical 13:
  circle w0.1: c-3.675,3.675 r0.5
  lines w0.1: -4.575,-4.575 -4.575,4.575 4.575,4.575 4.575,-4.575 -4.575,-4.575
Mechanical 15:
  lines w0.1: -0.5,0 0.5,0 ; 0,-0.5 0,0.5 ; -4.9,-4.9 -4.9,4.9 4.9,4.9 4.9,-4.9 -4.9,-4.9
3D body: height 0.8, standoff 0, extent -4.575,-4.575 4.575,4.575

## QFN50P900X900-64WAL [mm] "QFN, 64-Leads, Body 9x9mm, Pitch 0.5mm, IPC High Density"
height 0.9
pads (65):
  oval 0.65x0.25 smd: 1(-4.475,3.75) 2(-4.475,3.25) 3(-4.475,2.75) 4(-4.475,2.25) 5(-4.475,1.75) 6(-4.475,1.25) 7(-4.475,0.75) 8(-4.475,0.25) 9(-4.475,-0.25) 10(-4.475,-0.75) 11(-4.475,-1.25) 12(-4.475,-1.75) 13(-4.475,-2.25) 14(-4.475,-2.75) 15(-4.475,-3.25) 16(-4.475,-3.75) 33(4.475,-3.75) 34(4.475,-3.25) 35(4.475,-2.75) 36(4.475,-2.25) 37(4.475,-1.75) 38(4.475,-1.25) 39(4.475,-0.75) 40(4.475,-0.25) 41(4.475,0.25) 42(4.475,0.75) 43(4.475,1.25) 44(4.475,1.75) 45(4.475,2.25) 46(4.475,2.75) 47(4.475,3.25) 48(4.475,3.75)
  oval 0.25x0.65 smd: 17(-3.75,-4.475) 18(-3.25,-4.475) 19(-2.75,-4.475) 20(-2.25,-4.475) 21(-1.75,-4.475) 22(-1.25,-4.475) 23(-0.75,-4.475) 24(-0.25,-4.475) 25(0.25,-4.475) 26(0.75,-4.475) 27(1.25,-4.475) 28(1.75,-4.475) 29(2.25,-4.475) 30(2.75,-4.475) 31(3.25,-4.475) 32(3.75,-4.475) 49(3.75,4.475) 50(3.25,4.475) 51(2.75,4.475) 52(2.25,4.475) 53(1.75,4.475) 54(1.25,4.475) 55(0.75,4.475) 56(0.25,4.475) 57(-0.25,4.475) 58(-0.75,4.475) 59(-1.25,4.475) 60(-1.75,4.475) 61(-2.25,4.475) 62(-2.75,4.475) 63(-3.25,4.475) 64(-3.75,4.475)
  rect 7.3x7.3 smd: 65(0,0)
via 3,-3 diameter 0.66 hole 0.33
via 1.8,-3 diameter 0.66 hole 0.33
via 0.6,-3 diameter 0.66 hole 0.33
via -0.6,-3 diameter 0.66 hole 0.33
via -1.8,-3 diameter 0.66 hole 0.33
via -3,-3 diameter 0.66 hole 0.33
via 3,-1.8 diameter 0.66 hole 0.33
via 1.8,-1.8 diameter 0.66 hole 0.33
via 0.6,-1.8 diameter 0.66 hole 0.33
via -0.6,-1.8 diameter 0.66 hole 0.33
via -1.8,-1.8 diameter 0.66 hole 0.33
via -3,-1.8 diameter 0.66 hole 0.33
via 3,-0.6 diameter 0.66 hole 0.33
via 1.8,-0.6 diameter 0.66 hole 0.33
via 0.6,-0.6 diameter 0.66 hole 0.33
via -0.6,-0.6 diameter 0.66 hole 0.33
via -1.8,-0.6 diameter 0.66 hole 0.33
via -3,-0.6 diameter 0.66 hole 0.33
via 3,0.6 diameter 0.66 hole 0.33
via 1.8,0.6 diameter 0.66 hole 0.33
via 0.6,0.6 diameter 0.66 hole 0.33
via -0.6,0.6 diameter 0.66 hole 0.33
via -1.8,0.6 diameter 0.66 hole 0.33
via -3,0.6 diameter 0.66 hole 0.33
via 3,1.8 diameter 0.66 hole 0.33
via 1.8,1.8 diameter 0.66 hole 0.33
via 0.6,1.8 diameter 0.66 hole 0.33
via -0.6,1.8 diameter 0.66 hole 0.33
via -1.8,1.8 diameter 0.66 hole 0.33
via -3,1.8 diameter 0.66 hole 0.33
via 3,3 diameter 0.66 hole 0.33
via 1.8,3 diameter 0.66 hole 0.33
via 0.6,3 diameter 0.66 hole 0.33
via -0.6,3 diameter 0.66 hole 0.33
via -1.8,3 diameter 0.66 hole 0.33
via -3,3 diameter 0.66 hole 0.33
Top Overlay:
  circle w0.25: c-5.35,3.75 r0.125
  lines w0.2: -4.6,-4.3 -4.6,-4.6 -4.3,-4.6 ; -4.6,4.3 -4.6,4.6 -4.3,4.6 ; 4.3,-4.6 4.6,-4.6 4.6,-4.3 ; 4.3,4.6 4.6,4.6 4.6,4.3
Mechanical 13:
  circle w0.1: c-3.675,3.675 r0.5
  lines w0.1: -4.575,-4.575 4.575,-4.575 4.575,4.575 -4.575,4.575 -4.575,-4.575
Mechanical 15:
  lines w0.1: -0.5,0 0.5,0 ; 0,-0.5 0,0.5 ; -4.9,-4.9 4.9,-4.9 4.9,4.9 -4.9,4.9 -4.9,-4.9
3D body: height 0.8, standoff 0, extent -4.575,-4.575 4.575,4.575

## QFN50P900X900-64WL [mm] "QFN, 64-Leads, Body 9x9mm, Pitch 0.5mm, IPC High Density"
height 0.8
pads (65):
  oval 0.65x0.3 smd: 1(-4.475,3.75) 2(-4.475,3.25) 3(-4.475,2.75) 4(-4.475,2.25) 5(-4.475,1.75) 6(-4.475,1.25) 7(-4.475,0.75) 8(-4.475,0.25) 9(-4.475,-0.25) 10(-4.475,-0.75) 11(-4.475,-1.25) 12(-4.475,-1.75) 13(-4.475,-2.25) 14(-4.475,-2.75) 15(-4.475,-3.25) 16(-4.475,-3.75) 33(4.475,-3.75) 34(4.475,-3.25) 35(4.475,-2.75) 36(4.475,-2.25) 37(4.475,-1.75) 38(4.475,-1.25) 39(4.475,-0.75) 40(4.475,-0.25) 41(4.475,0.25) 42(4.475,0.75) 43(4.475,1.25) 44(4.475,1.75) 45(4.475,2.25) 46(4.475,2.75) 47(4.475,3.25) 48(4.475,3.75)
  oval 0.3x0.65 smd: 17(-3.75,-4.475) 18(-3.25,-4.475) 19(-2.75,-4.475) 20(-2.25,-4.475) 21(-1.75,-4.475) 22(-1.25,-4.475) 23(-0.75,-4.475) 24(-0.25,-4.475) 25(0.25,-4.475) 26(0.75,-4.475) 27(1.25,-4.475) 28(1.75,-4.475) 29(2.25,-4.475) 30(2.75,-4.475) 31(3.25,-4.475) 32(3.75,-4.475) 49(3.75,4.475) 50(3.25,4.475) 51(2.75,4.475) 52(2.25,4.475) 53(1.75,4.475) 54(1.25,4.475) 55(0.75,4.475) 56(0.25,4.475) 57(-0.25,4.475) 58(-0.75,4.475) 59(-1.25,4.475) 60(-1.75,4.475) 61(-2.25,4.475) 62(-2.75,4.475) 63(-3.25,4.475) 64(-3.75,4.475)
  rect 7.8x7.8 smd: 65(0,0)
via -3,3 diameter 0.66 hole 0.33
via -1.8,3 diameter 0.66 hole 0.33
via -0.6,3 diameter 0.66 hole 0.33
via 0.6,3 diameter 0.66 hole 0.33
via 1.8,3 diameter 0.66 hole 0.33
via 3,3 diameter 0.66 hole 0.33
via -3,1.8 diameter 0.66 hole 0.33
via -1.8,1.8 diameter 0.66 hole 0.33
via -0.6,1.8 diameter 0.66 hole 0.33
via 0.6,1.8 diameter 0.66 hole 0.33
via 1.8,1.8 diameter 0.66 hole 0.33
via 3,1.8 diameter 0.66 hole 0.33
via -3,0.6 diameter 0.66 hole 0.33
via -1.8,0.6 diameter 0.66 hole 0.33
via -0.6,0.6 diameter 0.66 hole 0.33
via 0.6,0.6 diameter 0.66 hole 0.33
via 1.8,0.6 diameter 0.66 hole 0.33
via 3,0.6 diameter 0.66 hole 0.33
via -3,-0.6 diameter 0.66 hole 0.33
via -1.8,-0.6 diameter 0.66 hole 0.33
via -0.6,-0.6 diameter 0.66 hole 0.33
via 0.6,-0.6 diameter 0.66 hole 0.33
via 1.8,-0.6 diameter 0.66 hole 0.33
via 3,-0.6 diameter 0.66 hole 0.33
via -3,-1.8 diameter 0.66 hole 0.33
via -1.8,-1.8 diameter 0.66 hole 0.33
via -0.6,-1.8 diameter 0.66 hole 0.33
via 0.6,-1.8 diameter 0.66 hole 0.33
via 1.8,-1.8 diameter 0.66 hole 0.33
via 3,-1.8 diameter 0.66 hole 0.33
via -3,-3 diameter 0.66 hole 0.33
via -1.8,-3 diameter 0.66 hole 0.33
via -0.6,-3 diameter 0.66 hole 0.33
via 0.6,-3 diameter 0.66 hole 0.33
via 1.8,-3 diameter 0.66 hole 0.33
via 3,-3 diameter 0.66 hole 0.33
Top Overlay:
  circle w0.25: c-5.35,3.75 r0.125
  lines w0.2: -4.6,-4.3 -4.6,-4.6 -4.3,-4.6 ; -4.6,4.3 -4.6,4.6 -4.3,4.6 ; 4.3,-4.6 4.6,-4.6 4.6,-4.3 ; 4.3,4.6 4.6,4.6 4.6,4.3
Mechanical 13:
  circle w0.1: c-3.675,3.675 r0.5
  lines w0.1: -4.575,-4.575 -4.575,4.575 4.575,4.575 4.575,-4.575 -4.575,-4.575
Mechanical 15:
  lines w0.1: -0.5,0 0.5,0 ; 0,-0.5 0,0.5 ; -4.9,-4.9 -4.9,4.9 4.9,4.9 4.9,-4.9 -4.9,-4.9
3D body: height 0.8, standoff 0, extent -4.575,-4.575 4.575,4.575

## QFN50P1000X1000-64V1L [mm] "QFN, 64-Leads, Body 10x10mm, Pitch 0.5mm, IPC High Density"
height 1
pads (65):
  oval 0.85x0.3 smd: 1(-4.875,3.75) 2(-4.875,3.25) 3(-4.875,2.75) 4(-4.875,2.25) 5(-4.875,1.75) 6(-4.875,1.25) 7(-4.875,0.75) 8(-4.875,0.25) 9(-4.875,-0.25) 10(-4.875,-0.75) 11(-4.875,-1.25) 12(-4.875,-1.75) 13(-4.875,-2.25) 14(-4.875,-2.75) 15(-4.875,-3.25) 16(-4.875,-3.75) 33(4.875,-3.75) 34(4.875,-3.25) 35(4.875,-2.75) 36(4.875,-2.25) 37(4.875,-1.75) 38(4.875,-1.25) 39(4.875,-0.75) 40(4.875,-0.25) 41(4.875,0.25) 42(4.875,0.75) 43(4.875,1.25) 44(4.875,1.75) 45(4.875,2.25) 46(4.875,2.75) 47(4.875,3.25) 48(4.875,3.75)
  oval 0.3x0.85 smd: 17(-3.75,-4.875) 18(-3.25,-4.875) 19(-2.75,-4.875) 20(-2.25,-4.875) 21(-1.75,-4.875) 22(-1.25,-4.875) 23(-0.75,-4.875) 24(-0.25,-4.875) 25(0.25,-4.875) 26(0.75,-4.875) 27(1.25,-4.875) 28(1.75,-4.875) 29(2.25,-4.875) 30(2.75,-4.875) 31(3.25,-4.875) 32(3.75,-4.875) 49(3.75,4.875) 50(3.25,4.875) 51(2.75,4.875) 52(2.25,4.875) 53(1.75,4.875) 54(1.25,4.875) 55(0.75,4.875) 56(0.25,4.875) 57(-0.25,4.875) 58(-0.75,4.875) 59(-1.25,4.875) 60(-1.75,4.875) 61(-2.25,4.875) 62(-2.75,4.875) 63(-3.25,4.875) 64(-3.75,4.875)
  rect 8.3x8.3 smd: 65(0,0)
via -3.6,3.6 diameter 0.66 hole 0.33
via -2.4,3.6 diameter 0.66 hole 0.33
via -1.2,3.6 diameter 0.66 hole 0.33
via 0,3.6 diameter 0.66 hole 0.33
via 1.2,3.6 diameter 0.66 hole 0.33
via 2.4,3.6 diameter 0.66 hole 0.33
via 3.6,3.6 diameter 0.66 hole 0.33
via -3.6,2.4 diameter 0.66 hole 0.33
via -2.4,2.4 diameter 0.66 hole 0.33
via -1.2,2.4 diameter 0.66 hole 0.33
via 0,2.4 diameter 0.66 hole 0.33
via 1.2,2.4 diameter 0.66 hole 0.33
via 2.4,2.4 diameter 0.66 hole 0.33
via 3.6,2.4 diameter 0.66 hole 0.33
via -3.6,1.2 diameter 0.66 hole 0.33
via -2.4,1.2 diameter 0.66 hole 0.33
via -1.2,1.2 diameter 0.66 hole 0.33
via 0,1.2 diameter 0.66 hole 0.33
via 1.2,1.2 diameter 0.66 hole 0.33
via 2.4,1.2 diameter 0.66 hole 0.33
via 3.6,1.2 diameter 0.66 hole 0.33
via -3.6,0 diameter 0.66 hole 0.33
via -2.4,0 diameter 0.66 hole 0.33
via -1.2,0 diameter 0.66 hole 0.33
via 0,0 diameter 0.66 hole 0.33
via 1.2,0 diameter 0.66 hole 0.33
via 2.4,0 diameter 0.66 hole 0.33
via 3.6,0 diameter 0.66 hole 0.33
via -3.6,-1.2 diameter 0.66 hole 0.33
via -2.4,-1.2 diameter 0.66 hole 0.33
via -1.2,-1.2 diameter 0.66 hole 0.33
via 0,-1.2 diameter 0.66 hole 0.33
via 1.2,-1.2 diameter 0.66 hole 0.33
via 2.4,-1.2 diameter 0.66 hole 0.33
via 3.6,-1.2 diameter 0.66 hole 0.33
via -3.6,-2.4 diameter 0.66 hole 0.33
via -2.4,-2.4 diameter 0.66 hole 0.33
via -1.2,-2.4 diameter 0.66 hole 0.33
via 0,-2.4 diameter 0.66 hole 0.33
via 1.2,-2.4 diameter 0.66 hole 0.33
via 2.4,-2.4 diameter 0.66 hole 0.33
via 3.6,-2.4 diameter 0.66 hole 0.33
via -3.6,-3.6 diameter 0.66 hole 0.33
via -2.4,-3.6 diameter 0.66 hole 0.33
via -1.2,-3.6 diameter 0.66 hole 0.33
via 0,-3.6 diameter 0.66 hole 0.33
via 1.2,-3.6 diameter 0.66 hole 0.33
via 2.4,-3.6 diameter 0.66 hole 0.33
via 3.6,-3.6 diameter 0.66 hole 0.33
Top Overlay:
  circle w0.25: c-5.85,3.75 r0.125
  lines w0.2: -5.1,-4.3 -5.1,-5.1 -4.3,-5.1 ; -5.1,4.3 -5.1,5.1 -4.3,5.1 ; 4.3,-5.1 5.1,-5.1 5.1,-4.3 ; 4.3,5.1 5.1,5.1 5.1,4.3
Mechanical 13:
  circle w0.1: c-4.175,4.175 r0.5
  lines w0.1: -5.075,-5.075 -5.075,5.075 5.075,5.075 5.075,-5.075 -5.075,-5.075
Mechanical 15:
  lines w0.1: -0.5,0 0.5,0 ; 0,-0.5 0,0.5 ; -5.4,-5.4 -5.4,5.4 5.4,5.4 5.4,-5.4 -5.4,-5.4
3D body: height 1, standoff 0, extent -5.075,-5.075 5.075,5.075

## QFN50P1000X1000-64W1L [mm] "QFN, 64-Leads, Body 10x10mm, Pitch 0.5mm, IPC High Density"
height 0.8
pads (65):
  oval 0.85x0.3 smd: 1(-4.875,3.75) 2(-4.875,3.25) 3(-4.875,2.75) 4(-4.875,2.25) 5(-4.875,1.75) 6(-4.875,1.25) 7(-4.875,0.75) 8(-4.875,0.25) 9(-4.875,-0.25) 10(-4.875,-0.75) 11(-4.875,-1.25) 12(-4.875,-1.75) 13(-4.875,-2.25) 14(-4.875,-2.75) 15(-4.875,-3.25) 16(-4.875,-3.75) 33(4.875,-3.75) 34(4.875,-3.25) 35(4.875,-2.75) 36(4.875,-2.25) 37(4.875,-1.75) 38(4.875,-1.25) 39(4.875,-0.75) 40(4.875,-0.25) 41(4.875,0.25) 42(4.875,0.75) 43(4.875,1.25) 44(4.875,1.75) 45(4.875,2.25) 46(4.875,2.75) 47(4.875,3.25) 48(4.875,3.75)
  oval 0.3x0.85 smd: 17(-3.75,-4.875) 18(-3.25,-4.875) 19(-2.75,-4.875) 20(-2.25,-4.875) 21(-1.75,-4.875) 22(-1.25,-4.875) 23(-0.75,-4.875) 24(-0.25,-4.875) 25(0.25,-4.875) 26(0.75,-4.875) 27(1.25,-4.875) 28(1.75,-4.875) 29(2.25,-4.875) 30(2.75,-4.875) 31(3.25,-4.875) 32(3.75,-4.875) 49(3.75,4.875) 50(3.25,4.875) 51(2.75,4.875) 52(2.25,4.875) 53(1.75,4.875) 54(1.25,4.875) 55(0.75,4.875) 56(0.25,4.875) 57(-0.25,4.875) 58(-0.75,4.875) 59(-1.25,4.875) 60(-1.75,4.875) 61(-2.25,4.875) 62(-2.75,4.875) 63(-3.25,4.875) 64(-3.75,4.875)
  rect 8.3x8.3 smd: 65(0,0)
via -3.6,3.6 diameter 0.66 hole 0.33
via -2.4,3.6 diameter 0.66 hole 0.33
via -1.2,3.6 diameter 0.66 hole 0.33
via 0,3.6 diameter 0.66 hole 0.33
via 1.2,3.6 diameter 0.66 hole 0.33
via 2.4,3.6 diameter 0.66 hole 0.33
via 3.6,3.6 diameter 0.66 hole 0.33
via -3.6,2.4 diameter 0.66 hole 0.33
via -2.4,2.4 diameter 0.66 hole 0.33
via -1.2,2.4 diameter 0.66 hole 0.33
via 0,2.4 diameter 0.66 hole 0.33
via 1.2,2.4 diameter 0.66 hole 0.33
via 2.4,2.4 diameter 0.66 hole 0.33
via 3.6,2.4 diameter 0.66 hole 0.33
via -3.6,1.2 diameter 0.66 hole 0.33
via -2.4,1.2 diameter 0.66 hole 0.33
via -1.2,1.2 diameter 0.66 hole 0.33
via 0,1.2 diameter 0.66 hole 0.33
via 1.2,1.2 diameter 0.66 hole 0.33
via 2.4,1.2 diameter 0.66 hole 0.33
via 3.6,1.2 diameter 0.66 hole 0.33
via -3.6,0 diameter 0.66 hole 0.33
via -2.4,0 diameter 0.66 hole 0.33
via -1.2,0 diameter 0.66 hole 0.33
via 0,0 diameter 0.66 hole 0.33
via 1.2,0 diameter 0.66 hole 0.33
via 2.4,0 diameter 0.66 hole 0.33
via 3.6,0 diameter 0.66 hole 0.33
via -3.6,-1.2 diameter 0.66 hole 0.33
via -2.4,-1.2 diameter 0.66 hole 0.33
via -1.2,-1.2 diameter 0.66 hole 0.33
via 0,-1.2 diameter 0.66 hole 0.33
via 1.2,-1.2 diameter 0.66 hole 0.33
via 2.4,-1.2 diameter 0.66 hole 0.33
via 3.6,-1.2 diameter 0.66 hole 0.33
via -3.6,-2.4 diameter 0.66 hole 0.33
via -2.4,-2.4 diameter 0.66 hole 0.33
via -1.2,-2.4 diameter 0.66 hole 0.33
via 0,-2.4 diameter 0.66 hole 0.33
via 1.2,-2.4 diameter 0.66 hole 0.33
via 2.4,-2.4 diameter 0.66 hole 0.33
via 3.6,-2.4 diameter 0.66 hole 0.33
via -3.6,-3.6 diameter 0.66 hole 0.33
via -2.4,-3.6 diameter 0.66 hole 0.33
via -1.2,-3.6 diameter 0.66 hole 0.33
via 0,-3.6 diameter 0.66 hole 0.33
via 1.2,-3.6 diameter 0.66 hole 0.33
via 2.4,-3.6 diameter 0.66 hole 0.33
via 3.6,-3.6 diameter 0.66 hole 0.33
Top Overlay:
  circle w0.25: c-5.85,3.75 r0.125
  lines w0.2: -5.1,-4.3 -5.1,-5.1 -4.3,-5.1 ; -5.1,4.3 -5.1,5.1 -4.3,5.1 ; 4.3,-5.1 5.1,-5.1 5.1,-4.3 ; 4.3,5.1 5.1,5.1 5.1,4.3
Mechanical 13:
  circle w0.1: c-4.175,4.175 r0.5
  lines w0.1: -5.075,-5.075 -5.075,5.075 5.075,5.075 5.075,-5.075 -5.075,-5.075
Mechanical 15:
  lines w0.1: -0.5,0 0.5,0 ; 0,-0.5 0,0.5 ; -5.4,-5.4 -5.4,5.4 5.4,5.4 5.4,-5.4 -5.4,-5.4
3D body: height 0.8, standoff 0, extent -5.075,-5.075 5.075,5.075

## QFN50P1000X1000-68V2L [mm] "QFN, 68-Leads, Body 10x10mm, Pitch 0.5mm, IPC High Density"
height 1
pads (69):
  oval 0.85x0.3 smd: 1(-4.875,4) 2(-4.875,3.5) 3(-4.875,3) 4(-4.875,2.5) 5(-4.875,2) 6(-4.875,1.5) 7(-4.875,1) 8(-4.875,0.5) 9(-4.875,0) 10(-4.875,-0.5) 11(-4.875,-1) 12(-4.875,-1.5) 13(-4.875,-2) 14(-4.875,-2.5) 15(-4.875,-3) 16(-4.875,-3.5) 17(-4.875,-4) 35(4.875,-4) 36(4.875,-3.5) 37(4.875,-3) 38(4.875,-2.5) 39(4.875,-2) 40(4.875,-1.5) 41(4.875,-1) 42(4.875,-0.5) 43(4.875,0) 44(4.875,0.5) 45(4.875,1) 46(4.875,1.5) 47(4.875,2) 48(4.875,2.5) 49(4.875,3) 50(4.875,3.5) 51(4.875,4)
  oval 0.3x0.85 smd: 18(-4,-4.875) 19(-3.5,-4.875) 20(-3,-4.875) 21(-2.5,-4.875) 22(-2,-4.875) 23(-1.5,-4.875) 24(-1,-4.875) 25(-0.5,-4.875) 26(0,-4.875) 27(0.5,-4.875) 28(1,-4.875) 29(1.5,-4.875) 30(2,-4.875) 31(2.5,-4.875) 32(3,-4.875) 33(3.5,-4.875) 34(4,-4.875) 52(4,4.875) 53(3.5,4.875) 54(3,4.875) 55(2.5,4.875) 56(2,4.875) 57(1.5,4.875) 58(1,4.875) 59(0.5,4.875) 60(0,4.875) 61(-0.5,4.875) 62(-1,4.875) 63(-1.5,4.875) 64(-2,4.875) 65(-2.5,4.875) 66(-3,4.875) 67(-3.5,4.875) 68(-4,4.875)
  rect 8.3x8.3 smd: 69(0,0)
via -3.6,3.6 diameter 0.66 hole 0.33
via -2.4,3.6 diameter 0.66 hole 0.33
via -1.2,3.6 diameter 0.66 hole 0.33
via 0,3.6 diameter 0.66 hole 0.33
via 1.2,3.6 diameter 0.66 hole 0.33
via 2.4,3.6 diameter 0.66 hole 0.33
via 3.6,3.6 diameter 0.66 hole 0.33
via -3.6,2.4 diameter 0.66 hole 0.33
via -2.4,2.4 diameter 0.66 hole 0.33
via -1.2,2.4 diameter 0.66 hole 0.33
via 0,2.4 diameter 0.66 hole 0.33
via 1.2,2.4 diameter 0.66 hole 0.33
via 2.4,2.4 diameter 0.66 hole 0.33
via 3.6,2.4 diameter 0.66 hole 0.33
via -3.6,1.2 diameter 0.66 hole 0.33
via -2.4,1.2 diameter 0.66 hole 0.33
via -1.2,1.2 diameter 0.66 hole 0.33
via 0,1.2 diameter 0.66 hole 0.33
via 1.2,1.2 diameter 0.66 hole 0.33
via 2.4,1.2 diameter 0.66 hole 0.33
via 3.6,1.2 diameter 0.66 hole 0.33
via -3.6,0 diameter 0.66 hole 0.33
via -2.4,0 diameter 0.66 hole 0.33
via -1.2,0 diameter 0.66 hole 0.33
via 0,0 diameter 0.66 hole 0.33
via 1.2,0 diameter 0.66 hole 0.33
via 2.4,0 diameter 0.66 hole 0.33
via 3.6,0 diameter 0.66 hole 0.33
via -3.6,-1.2 diameter 0.66 hole 0.33
via -2.4,-1.2 diameter 0.66 hole 0.33
via -1.2,-1.2 diameter 0.66 hole 0.33
via 0,-1.2 diameter 0.66 hole 0.33
via 1.2,-1.2 diameter 0.66 hole 0.33
via 2.4,-1.2 diameter 0.66 hole 0.33
via 3.6,-1.2 diameter 0.66 hole 0.33
via -3.6,-2.4 diameter 0.66 hole 0.33
via -2.4,-2.4 diameter 0.66 hole 0.33
via -1.2,-2.4 diameter 0.66 hole 0.33
via 0,-2.4 diameter 0.66 hole 0.33
via 1.2,-2.4 diameter 0.66 hole 0.33
via 2.4,-2.4 diameter 0.66 hole 0.33
via 3.6,-2.4 diameter 0.66 hole 0.33
via -3.6,-3.6 diameter 0.66 hole 0.33
via -2.4,-3.6 diameter 0.66 hole 0.33
via -1.2,-3.6 diameter 0.66 hole 0.33
via 0,-3.6 diameter 0.66 hole 0.33
via 1.2,-3.6 diameter 0.66 hole 0.33
via 2.4,-3.6 diameter 0.66 hole 0.33
via 3.6,-3.6 diameter 0.66 hole 0.33
Top Overlay:
  circle w0.25: c-5.85,4 r0.125
  lines w0.2: -5.1,-4.55 -5.1,-5.1 -4.55,-5.1 ; -5.1,4.55 -5.1,5.1 -4.55,5.1 ; 4.55,-5.1 5.1,-5.1 5.1,-4.55 ; 4.55,5.1 5.1,5.1 5.1,4.55
Mechanical 13:
  circle w0.1: c-4.175,4.175 r0.5
  lines w0.1: -5.075,-5.075 -5.075,5.075 5.075,5.075 5.075,-5.075 -5.075,-5.075
Mechanical 15:
  lines w0.1: -0.5,0 0.5,0 ; 0,-0.5 0,0.5 ; -5.4,-5.4 -5.4,5.4 5.4,5.4 5.4,-5.4 -5.4,-5.4
3D body: height 1, standoff 0, extent -5.075,-5.075 5.075,5.075